# Altium schematic symbol library MCKPM-G1201A-K4037.SchLib: 1 symbol
Pins are listed as number, name and electrical type; pins without a type are passive.

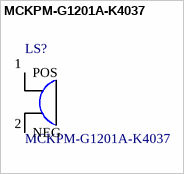
[diagram p0: symbol MCKPM-G1201A-K4037]

## MCKPM-G1201A-K4037
designator LS?
Magnetic Buzzer And Transducer; MF: Multicomp; Availability: Unavailable; Package: None; MP: MCKPM-G1201A-K4037; Price: 0.24 USD; Value: *
footprint XDCR_MCKPM-G1201A-K4037
pins: 1 POS, 2 NEG